# EAGLE library part AXK500137YG (library AXK500137YG)
Board to Board & Mezzanine Connectors CONN SOCKET BRD/BRD 100 POS 0.5mm Source: Datasheet <https://industry.panasonic.com/ac/cdn/e/control/connector/base-base/catalog/con_eng_p5k.pdf>
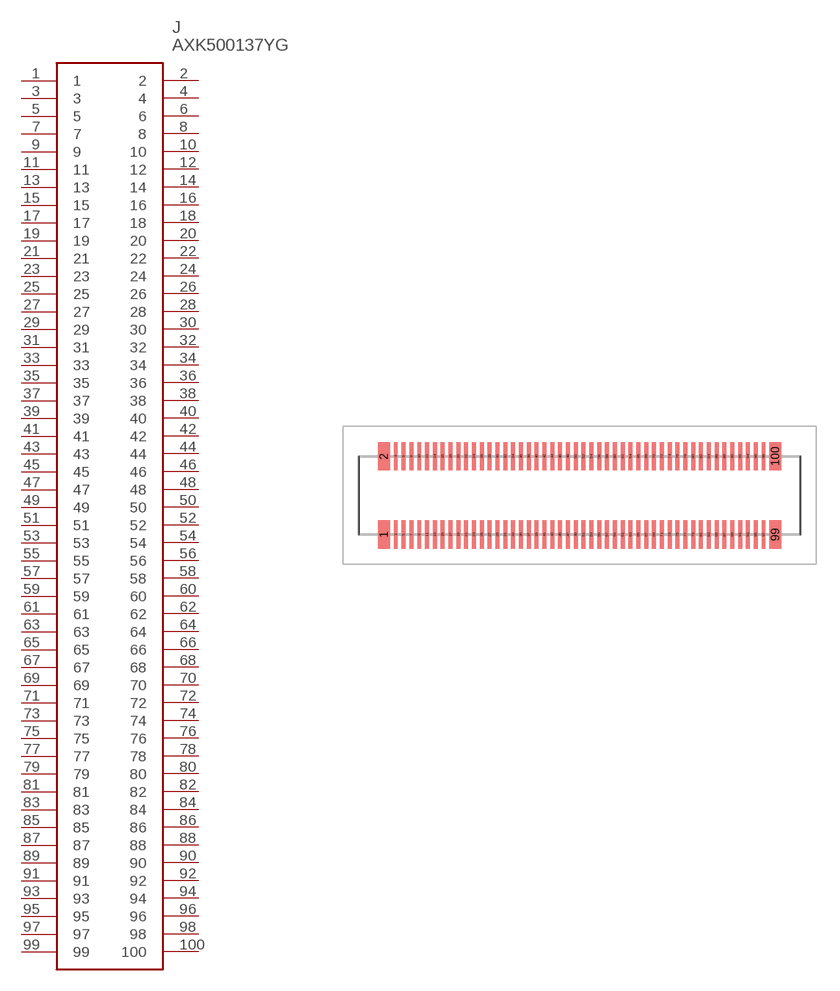
[diagram p0: symbol with the pads of AXK500137YG; footprint AXK500137YG]

Designator prefix J

## AXK500137YG (Arrow_Part_Number: AXK500137YG; Arrow_Price-Stock: https://www.arrow.com/en/products/axk500137yg/panasonic?utm_currency=USD&region=nac; Description: Board to Board & Mezzanine Connectors CONN SOCKET BRD/BRD 100 POS 0.5mm; Height: 2.55mm; Manufacturer_Name: Panasonic; Manufacturer_Part_Number: AXK500137YG; Mouser_Part_Number: 769-AXK500137YG; Mouser_Price-Stock: https://www.mouser.co.uk/ProductDetail/Panasonic-Industrial-Devices/AXK500137YG?qs=2rFUEsTwVNyhvaP0YC8Z%2Fg%3D%3D)  [AXK500137YG]
1  1
2  2
3  3
4  4
5  5
6  6
7  7
8  8
9  9
10  10
11  11
12  12
13  13
14  14
15  15
16  16
17  17
18  18
19  19
20  20
21  21
22  22
23  23
24  24
25  25
26  26
27  27
28  28
29  29
30  30
31  31
32  32
33  33
34  34
35  35
36  36
37  37
38  38
39  39
40  40
41  41
42  42
43  43
44  44
45  45
46  46
47  47
48  48
49  49
50  50
51  51
52  52
53  53
54  54
55  55
56  56
57  57
58  58
59  59
60  60
61  61
62  62
63  63
64  64
65  65
66  66
67  67
68  68
69  69
70  70
71  71
72  72
73  73
74  74
75  75
76  76
77  77
78  78
79  79
80  80
81  81
82  82
83  83
84  84
85  85
86  86
87  87
88  88
89  89
90  90
91  91
92  92
93  93
94  94
95  95
96  96
97  97
98  98
99  99
100  100

## Footprint AXK500137YG (pad centres in mm)
AXK500137YG-1
smd 0.75 x 1.8: 1 -12.5,-2.5; 2 -12.5,2.5; 99 12.5,-2.5; 100 12.5,2.5
smd 0.25 x 1.8: 3 -11.75,-2.5; 4 -11.75,2.5; 5 -11.25,-2.5; 6 -11.25,2.5; 7 -10.75,-2.5; 8 -10.75,2.5; 9 -10.25,-2.5; 10 -10.25,2.5; 11 -9.75,-2.5; 12 -9.75,2.5; 13 -9.25,-2.5; 14 -9.25,2.5; 15 -8.75,-2.5; 16 -8.75,2.5; 17 -8.25,-2.5; 18 -8.25,2.5; 19 -7.75,-2.5; 20 -7.75,2.5; 21 -7.25,-2.5; 22 -7.25,2.5; 23 -6.75,-2.5; 24 -6.75,2.5; 25 -6.25,-2.5; 26 -6.25,2.5; 27 -5.75,-2.5; 28 -5.75,2.5; 29 -5.25,-2.5; 30 -5.25,2.5; 31 -4.75,-2.5; 32 -4.75,2.5; 33 -4.25,-2.5; 34 -4.25,2.5; 35 -3.75,-2.5; 36 -3.75,2.5; 37 -3.25,-2.5; 38 -3.25,2.5; 39 -2.75,-2.5; 40 -2.75,2.5; 41 -2.25,-2.5; 42 -2.25,2.5; 43 -1.75,-2.5; 44 -1.75,2.5; 45 -1.25,-2.5; 46 -1.25,2.5; 47 -0.75,-2.5; 48 -0.75,2.5; 49 -0.25,-2.5; 50 -0.25,2.5; 51 0.25,-2.5; 52 0.25,2.5; 53 0.75,-2.5; 54 0.75,2.5; 55 1.25,-2.5; 56 1.25,2.5; 57 1.75,-2.5; 58 1.75,2.5; 59 2.25,-2.5; 60 2.25,2.5; 61 2.75,-2.5; 62 2.75,2.5; 63 3.25,-2.5; 64 3.25,2.5; 65 3.75,-2.5; 66 3.75,2.5; 67 4.25,-2.5; 68 4.25,2.5; 69 4.75,-2.5; 70 4.75,2.5; 71 5.25,-2.5; 72 5.25,2.5; 73 5.75,-2.5; 74 5.75,2.5; 75 6.25,-2.5; 76 6.25,2.5; 77 6.75,-2.5; 78 6.75,2.5; 79 7.25,-2.5; 80 7.25,2.5; 81 7.75,-2.5; 82 7.75,2.5; 83 8.25,-2.5; 84 8.25,2.5; 85 8.75,-2.5; 86 8.75,2.5; 87 9.25,-2.5; 88 9.25,2.5; 89 9.75,-2.5; 90 9.75,2.5; 91 10.25,-2.5; 92 10.25,2.5; 93 10.75,-2.5; 94 10.75,2.5; 95 11.25,-2.5; 96 11.25,2.5; 97 11.75,-2.5; 98 11.75,2.5